# Altium integrated library FK22X7R2A105KN000.IntLib: 1 symbol
Pins are listed as number, name and electrical type; pins without a type are passive.

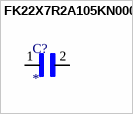
[diagram p0: symbol FK22X7R2A105KN000]

## FK22X7R2A105KN000
designator C?
Cap Ceramic 1uF 100V X7R 10% Radial 5mm 125Â°C Tape and Box; MF: TDK; MP: FK22X7R2A105KN000; Value: *; Check_prices: https://www.snapeda.com/parts/FK22X7R2A105KN000/TDK/view-part/?ref=eda; Purchase-URL: https://pricing.snapeda.com/search/part/FK22X7R2A105KN000/?ref=eda; SnapEDA_Link: https://www.snapeda.com/parts/FK22X7R2A105KN000/TDK/view-part/?ref=snap; Package: None; Digi-Key_Part_Number: 445-FK22X7R2A105KN000-ND
footprint CAPRB500W50L750T400H800
pins: 1, 2